# EAGLE library part JST8 (library robot-hand)
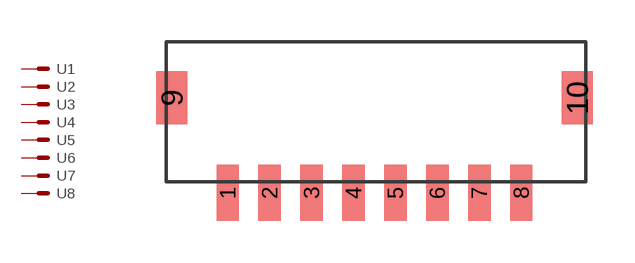
[diagram p5: symbol with the pads of JST; footprint JST]

Designator prefix -; gates 1=M 2=M 3=M 4=M 5=M 6=M 7=M 8=M

## JST8  [JST]
1  1:S  pas
2  2:S  pas
3  3:S  pas
4  4:S  pas
5  5:S  pas
6  6:S  pas
7  7:S  pas
8  8:S  pas

## Footprint JST (pad centres in mm)
smd 0.8 x 2: 1 -4.8,-2.7; 2 -3.3,-2.7; 3 -1.8,-2.7; 4 -0.3,-2.7; 5 1.2,-2.7; 6 2.7,-2.7; 7 4.2,-2.7; 8 5.7,-2.7
smd 1.1 x 1.9: 9 -6.8,0.7; 10 7.7,0.7